# Altium footprint library AltiumLibrary.PcbLib: 85 footprints (part 2 of 6)
Each footprint in its own frame and in the unit in brackets; x right, y up, seen from the top. Pads: shape width x height; smd on the part's side, far side on the other; paste and mask are expansions set on the pad; w line width, h text height; cw(c..) or ccw(c..) is an arc to the next point about the centre after c.
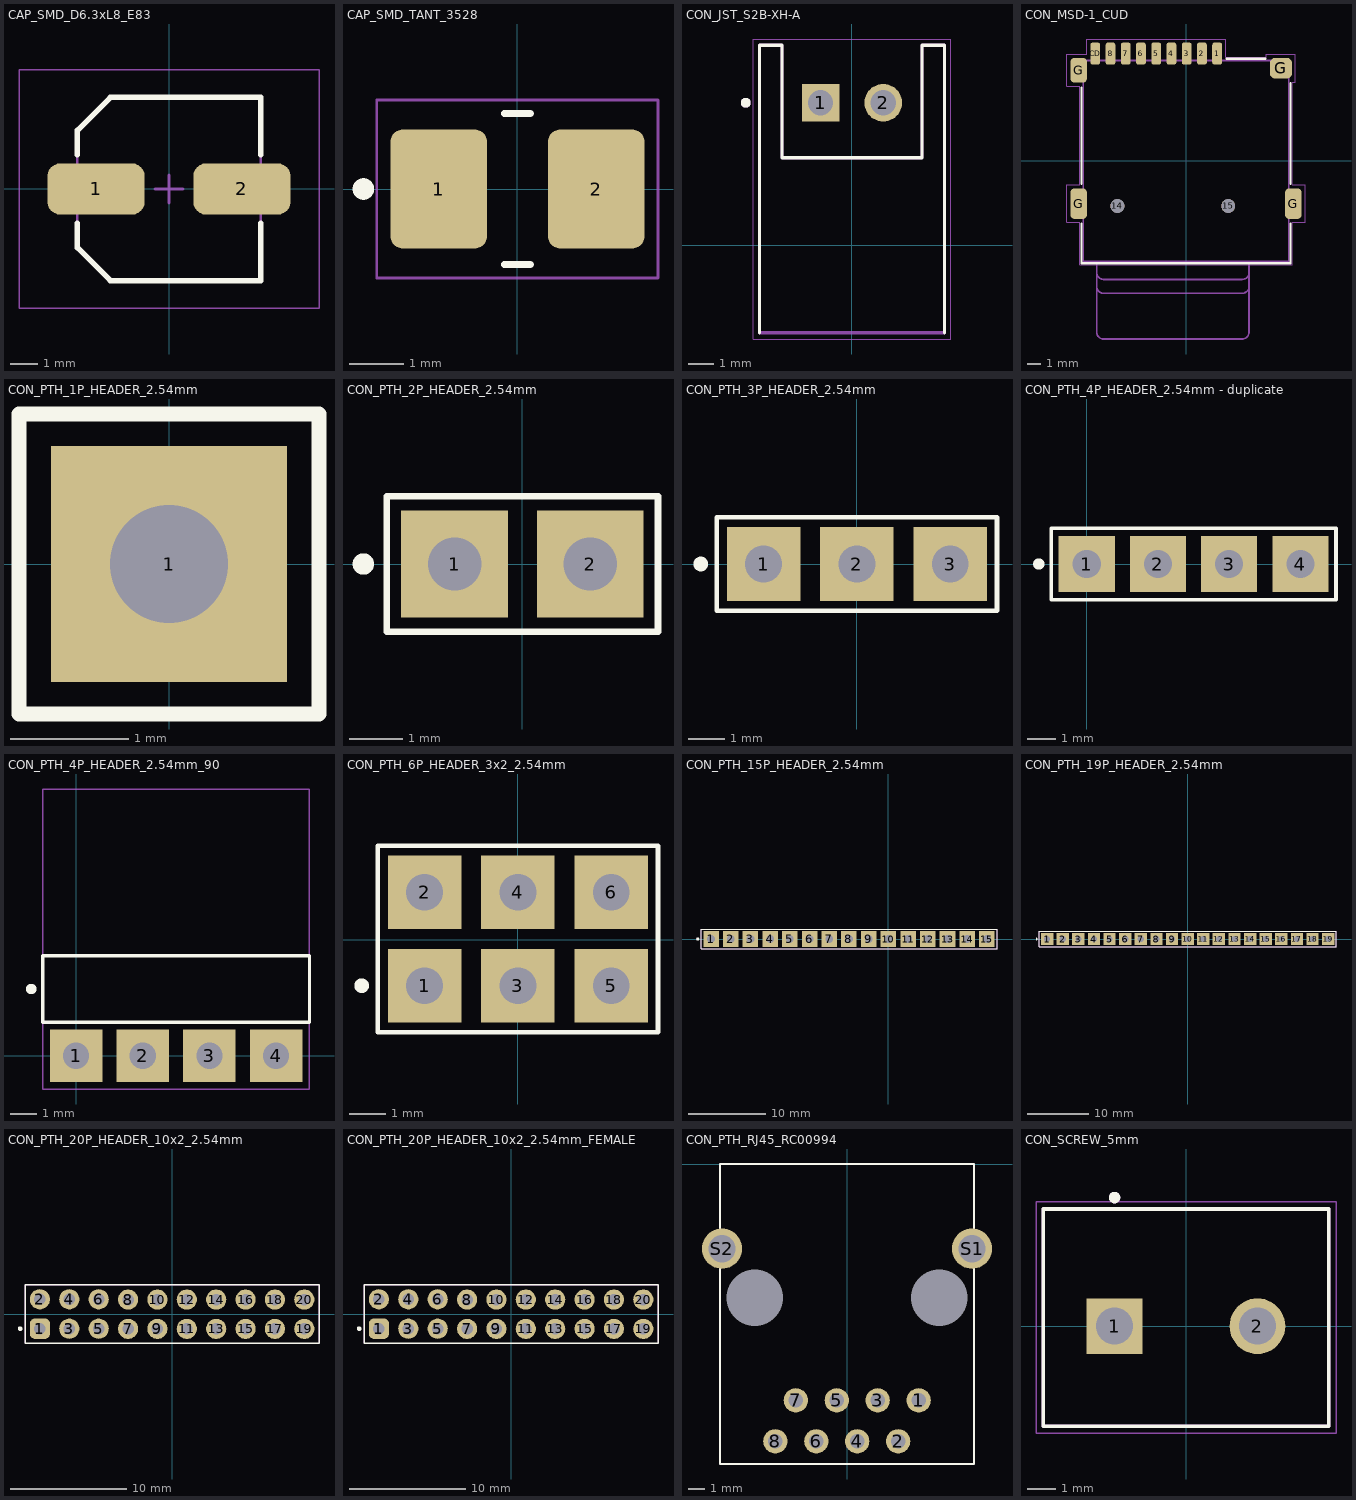
[diagram p1: the footprints below, top view; thin cyan lines are the x and y axes]

## CAP_SMD_D6.3xL8_E83 [mm] "Aluminum Electrolytic Capacitor, Body D6.3mm x L8.00mm, IPC Low Density"
height 8
pads (2):
  rrect50% 3.5x1.85 smd: 1(-2.625,0) 2(2.625,0)
Top Overlay:
  lines w0.2: -3.3,-1.225 -3.3,-2.113 -2.113,-3.3 3.3,-3.3 3.3,-1.225 ; -3.3,1.225 -3.3,2.113 -2.113,3.3 3.3,3.3 3.3,1.225
Top Assembly (Mech13):
  lines w0.1: -3.3,-2.113 -2.113,-3.3 3.3,-3.3 3.3,3.3 -2.113,3.3 -3.3,2.113 -3.3,-2.113
Top Courtyard:
  lines w0.05: -5.4,-4.3 -5.4,4.3 5.4,4.3 5.4,-4.3 -5.4,-4.3
  lines w0.1: -0.5,0 0.5,0 ; 0,-0.5 0,0.5
3D body "CAPAE7266X80M.step": height 8, standoff 0, extent -3.6,-3.3 3.6,3.3

## CAP_SMD_TANT_3528 [mm] "Tantalum Capacitor SMD 3528 Case"
height 2.1
pads (2):
  rrect25% 1.79x2.21 smd: 1(-1.46,0) 2(1.46,0)
Top Overlay:
  circle w0.2: c-2.855,0 r0.1
  lines w0.127: -0.245,-1.4 0.245,-1.4 ; -0.245,1.4 0.245,1.4
Top Courtyard:
  lines w0.05: -2.605,-1.65 -2.605,1.65 2.605,1.65 2.605,-1.65 -2.605,-1.65
3D body "step_temp.STEP": height 2.1, standoff 0, extent -1.75,-1.4 1.75,1.4

## CON_JST_S2B-XH-A [mm]
pads (2):
  rect 1.508x1.508 / inner round 1.508 / far side rect 1.508x1.508 hole 1: 1(-1.25,5.7)
  round 1.508 hole 1: 2(1.25,5.7)
Top Overlay:
  circle w0.2: c-4.25,5.7 r0.1
  lines w0.127: -3.7,-3.5 -3.7,8 -2.8,8 -2.8,3.5 2.8,3.5 2.8,8 3.7,8 3.7,-3.5
Top 3D Body:
  circle w0.2: c-4.25,5.7 r0.1
  lines w0.127: -3.7,-3.5 3.7,-3.5 3.7,8 2.8,8 2.8,3.5 -2.8,3.5 -2.8,8 -3.7,8 -3.7,-3.5
Top Courtyard:
  lines w0.05: -3.95,-3.75 3.95,-3.75 3.95,8.25 -3.95,8.25 -3.95,-3.75
3D body "step_temp.STEP": height 6.1, standoff -3.4, extent -3.7,-3.5 3.7,8

## CON_MSD-1_CUD [mil] "MicroSD card slot"
pads (15):
  rrect50% 28x63 smd paste-99999: 1(88.58,305.19) 2(45.28,305.19) 3(1.97,305.19) 4(-41.34,305.19) 5(-84.65,305.19) 6(-127.95,305.19) 7(-171.26,305.19) 8(-214.57,305.19) CD(-257.87,305.19)
  round 39.37 hole 39.37 unplated paste-99999 mask+0: 14(-194.88,-127.89) 15(120.08,-127.89)
  rrect50% 47x87 smd paste-99999: G(-305.12,-121.14) G(305.12,-121.14)
  rrect50% 47x70.87 smd paste-99999: G(-305,257.89)
  rrect50% 63x59 smd paste-99999: G(269.69,263.82)
Top Overlay:
  lines w6: -297.5,-177.74 -297.5,-290.5 297.5,-290.5 297.5,-177.74 ; -297.5,-64.54 -297.5,209.35 ; 115.68,290.5 225.09,290.5 ; 297.5,-64.54 297.5,221.22
Top Paste:
  drawing of 13 lines, arcs and shapes, not listed
Top Assembly (Mech13):
  lines w1: -292.5,-285.5 292.5,-285.5 292.5,285.5 -292.5,285.5 -292.5,-285.5
  lines w5: -253.94,-356.3 ccw(c-234.25,-356.3) -234.25,-375.98 159.45,-375.98 ccw(c159.45,-356.3) 179.13,-356.3 ; -253.94,-316.93 ccw(c-234.25,-316.93) -234.25,-336.61 159.45,-336.61 ccw(c159.45,-316.93) 179.13,-316.93 ; -253.94,-285.43 -253.94,-486.22 ccw(c-234.25,-486.22) -234.25,-505.91 159.45,-505.91 ccw(c159.45,-486.22) 179.13,-486.22 179.13,-285.43 ; -253.94,-285.43 179.13,-285.43 ; -253.94,-285.43 -292.32,-285.43 -292.32,285.43 292.32,285.43 292.32,-285.43 179.13,-285.43
Top Courtyard:
  lines w1.97: -338.62,-174.64 -338.62,-67.64 -302.5,-67.64 -302.5,212.45 -338.5,212.45 -338.5,303.32 -281.87,303.32 -281.87,346.69 112.58,346.69 112.58,295.5 228.19,295.5 228.19,303.32 311.19,303.32 311.19,224.32 302.5,224.32 302.5,-67.64 338.62,-67.64 338.62,-174.64 302.5,-174.64 302.5,-295.5 -302.5,-295.5 -302.5,-174.64 -338.62,-174.64
3D body "step_temp.STEP": height 74.1, standoff -20.39, extent -318.91,-286 316.92,306.52

## CON_PTH_1P_HEADER_2.54mm [mm] "1P PTH male pin header. 2.54mm pitch"
pads (1):
  rect 2x2 hole 1: 1(0,0)
Top Overlay:
  lines w0.127: -1.27,-1.27 -1.27,1.27 1.27,1.27 1.27,-1.27 -1.27,-1.27
Top Courtyard:
  lines w0.05: -1.27,-1.27 -1.27,1.27 1.27,1.27 1.27,-1.27 -1.27,-1.27
3D body "1p.step": height 8.75, standoff -2.99, extent -1.27,-1.27 1.27,1.27

## CON_PTH_2P_HEADER_2.54mm [mm] "2P PTH male pin header. 2.54mm pitch"
pads (2):
  rect 2x2 hole 1: 1(-1.27,0) 2(1.27,0)
Top Overlay:
  circle w0.2: c-2.98,0 r0.1
  lines w0.127: -2.54,-1.27 -2.54,1.27 -1.53,1.27 2.54,1.27 2.54,-1.27 -2.54,-1.27
Top Courtyard:
  lines w0.05: -2.54,-1.27 -2.54,1.27 2.54,1.27 2.54,-1.27 -2.54,-1.27
3D body "2p.step": height 8.75, standoff -2.99, extent -2.54,-1.27 2.54,1.27

## CON_PTH_3P_HEADER_2.54mm [mm] "3P PTH male pin header. 2.54mm pitch"
pads (3):
  rect 2x2 hole 1: 1(-2.54,0) 2(0,0) 3(2.54,0)
Top Overlay:
  circle w0.2: c-4.25,0 r0.1
  lines w0.127: -3.81,-1.27 3.81,-1.27 3.81,1.27 2.8,1.27 -2.8,1.27 -3.81,1.27 -3.81,-1.27
Top Courtyard:
  lines w0.05: -3.81,-1.27 3.81,-1.27 3.81,1.27 -3.81,1.27 -3.81,-1.27
3D body "M20-9990345--3DModel-STEP-56544.STEP": height 8.75, standoff -2.99, extent -3.81,-1.27 3.81,1.27

## CON_PTH_4P_HEADER_2.54mm - duplicate [mm] "4P PTH male pin header. 2.54mm pitch"
pads (4):
  rect 2x2 hole 1: 1(0,0) 2(2.54,0) 3(5.08,0) 4(7.62,0)
Top Overlay:
  circle w0.2: c-1.71,0 r0.1
  lines w0.127: -1.27,-1.27 -1.27,1.27 -0.26,1.27 8.89,1.27 8.89,-1.27 -1.27,-1.27
Top Courtyard:
  lines w0.05: -1.27,-1.27 -1.27,1.27 8.89,1.27 8.89,-1.27 -1.27,-1.27
3D body "2p.step": height 8.75, standoff -2.99, extent 3.81,-1.27 8.89,1.27
3D body "2p.step": height 8.75, standoff -2.99, extent -1.27,-1.27 3.81,1.27

## CON_PTH_4P_HEADER_2.54mm_90 [mm] "4P PTH male pin header. 2.54mm pitch 90 degrees"
pads (4):
  rect 2x2 hole 1: 1(0,0) 2(2.54,0) 3(5.08,0) 4(7.62,0)
Top Overlay:
  circle w0.2: c-1.71,2.54 r0.1
  lines w0.127: -1.27,1.27 8.89,1.27 8.89,3.81 -0.26,3.81 -1.27,3.81 -1.27,1.27
Top Courtyard:
  lines w0.05: -1.27,-1.27 8.89,-1.27 8.89,10.16 -1.27,10.16 -1.27,-1.27
3D body "PH1RB-04-UA.STEP": height 2.51, standoff -3.04, extent -1.28,-0.32 8.887,9.9

## CON_PTH_6P_HEADER_3x2_2.54mm [mm] "3x2 6P PTH male pin header. 2.54mm pitch"
pads (6):
  rect 2x2 hole 1: 1(-2.54,-1.25) 2(-2.54,1.29) 3(0,-1.25) 4(0,1.29) 5(2.54,-1.25) 6(2.54,1.29)
Top Overlay:
  circle w0.2: c-4.25,-1.25 r0.1
  lines w0.127: -3.81,-2.52 3.81,-2.52 3.81,2.56 -3.81,2.56 -3.81,-2.52
Top Courtyard:
  lines w0.05: -3.81,-2.52 3.81,-2.52 3.81,2.56 -3.81,2.56 -3.81,-2.52
3D body "M20-9990345--3DModel-STEP-56544.STEP": height 8.75, standoff -2.99, extent -3.81,0.02 3.81,2.56
3D body "M20-9990345--3DModel-STEP-56544.STEP": height 8.75, standoff -2.99, extent -3.81,-2.52 3.81,0.02

## CON_PTH_15P_HEADER_2.54mm [mm] "15P PTH male pin header. 2.54mm pitch"
pads (15):
  rect 2x2 hole 1: 1(-22.86,0) 2(-20.32,0) 3(-17.78,0) 4(-15.24,0) 5(-12.7,0) 6(-10.16,0) 7(-7.62,0) 8(-5.08,0) 9(-2.54,0) 10(0,0) 11(2.54,0) 12(5.08,0) 13(7.62,0) 14(10.16,0) 15(12.7,0)
Top Overlay:
  circle w0.2: c-24.57,0 r0.1
  lines w0.127: -24.13,-1.27 14,-1.27 14,1.27 -17.52,1.27 -23.12,1.27 -24.13,1.27 -24.13,-1.27
Top Courtyard:
  lines w0.05: -24.13,-1.27 14,-1.27 14,1.27 -24.13,1.27 -24.13,-1.27
3D body "TSW-115-14-L-S.stp": height 10.68, standoff -2.78, extent -24.13,-1.27 14.097,1.27

## CON_PTH_19P_HEADER_2.54mm [mm] "19P PTH male pin header. 2.54mm pitch"
pads (19):
  rect 2x2 hole 1: 1(-22.86,0) 2(-20.32,0) 3(-17.78,0)
  rect 2x2 hole 1 paste-2539.97 mask+0.102: 4(-15.24,0) 5(-12.7,0) 6(-10.16,0) 7(-7.62,0) 8(-5.08,0) 9(-2.54,0) 10(0,0) 11(2.54,0) 12(5.08,0) 13(7.62,0) 14(10.16,0) 15(12.7,0) 16(15.24,0) 17(17.78,0) 18(20.32,0) 19(22.86,0)
Top Overlay:
  circle w0.2: c-24.57,0 r0.1
  lines w0.127: -24.13,-1.27 24.13,-1.27 24.13,1.27 -17.52,1.27 -23.12,1.27 -24.13,1.27 -24.13,-1.27
Top Courtyard:
  lines w0.05: -24.13,-1.27 24.13,-1.27 24.13,1.27 -24.13,1.27 -24.13,-1.27
3D body "19p.step": height 8.75, standoff -2.99, extent -24.13,-1.27 24.13,1.27

## CON_PTH_20P_HEADER_10x2_2.54mm [mm] "10x2 20P PTH male pin header. 2.54mm pitch"
pads (20):
  rrect50% 1.75x1.75 hole 1: 1(-11.43,-1.25)
  round 1.75 hole 1: 2(-11.43,1.29) 3(-8.89,-1.25) 4(-8.89,1.29) 5(-6.35,-1.25) 6(-6.35,1.29) 7(-3.81,-1.27) 8(-3.81,1.27) 9(-1.27,-1.27) 10(-1.27,1.27) 11(1.27,-1.27) 12(1.27,1.27) 13(3.81,-1.27) 14(3.81,1.27) 15(6.35,-1.27) 16(6.35,1.27) 17(8.89,-1.27) 18(8.89,1.27) 19(11.43,-1.27) 20(11.43,1.27)
Top Overlay:
  circle w0.2: c-13.14,-1.25 r0.1
  lines w0.127: -12.7,-2.52 12.7,-2.52 12.7,2.56 -12.7,2.56 -12.7,-2.52
Top Courtyard:
  lines w0.05: -12.7,-2.52 12.7,-2.52 12.7,2.56 -12.7,2.56 -12.7,-2.52
3D body "2p.step": height 8.75, standoff -2.99, extent -12.7,0 -7.62,2.54
3D body "2p.step": height 8.75, standoff -2.99, extent -2.54,-2.54 2.54,0
3D body "2p.step": height 8.75, standoff -2.99, extent 2.54,-2.54 7.62,0
3D body "2p.step": height 8.75, standoff -2.99, extent 7.62,-2.54 12.7,0
3D body "2p.step": height 8.75, standoff -2.99, extent 7.62,0 12.7,2.54
3D body "2p.step": height 8.75, standoff -2.99, extent 2.54,0 7.62,2.54
3D body "2p.step": height 8.75, standoff -2.99, extent -2.54,0 2.54,2.54
3D body "2p.step": height 8.75, standoff -2.99, extent -7.62,-2.54 -2.54,0
3D body "2p.step": height 8.75, standoff -2.99, extent -7.62,0 -2.54,2.54
3D body "2p.step": height 8.75, standoff -2.99, extent -12.7,-2.54 -7.62,0

## CON_PTH_20P_HEADER_10x2_2.54mm_FEMALE [mm] "10x2 20P PTH female pin header. 2.54mm pitch"
pads (20):
  rrect50% 1.75x1.75 hole 1: 1(-11.43,-1.25)
  round 1.75 hole 1: 2(-11.43,1.29) 3(-8.89,-1.25) 4(-8.89,1.29) 5(-6.35,-1.25) 6(-6.35,1.29) 7(-3.81,-1.27) 8(-3.81,1.27) 9(-1.27,-1.27) 10(-1.27,1.27) 11(1.27,-1.27) 12(1.27,1.27) 13(3.81,-1.27) 14(3.81,1.27) 15(6.35,-1.27) 16(6.35,1.27) 17(8.89,-1.27) 18(8.89,1.27) 19(11.43,-1.27) 20(11.43,1.27)
Top Overlay:
  circle w0.2: c-13.14,-1.25 r0.1
  lines w0.127: -12.7,-2.52 12.7,-2.52 12.7,2.56 -12.7,2.56 -12.7,-2.52
Top Courtyard:
  lines w0.05: -12.7,-2.52 12.7,-2.52 12.7,2.56 -12.7,2.56 -12.7,-2.52
3D body "PPPC042LFBNRC--3DModel-STEP-269445.STEP": height 8.52, standoff -3.19, extent -12.7,0 -7.62,2.54
3D body "PPPC042LFBNRC--3DModel-STEP-269445.STEP": height 8.52, standoff -3.19, extent -7.62,0 -2.54,2.54
3D body "PPPC042LFBNRC--3DModel-STEP-269445.STEP": height 8.52, standoff -3.19, extent -2.54,0 2.54,2.54
3D body "PPPC042LFBNRC--3DModel-STEP-269445.STEP": height 8.52, standoff -3.19, extent 2.54,0 7.62,2.54
3D body "PPPC042LFBNRC--3DModel-STEP-269445.STEP": height 8.52, standoff -3.19, extent 7.62,0 12.7,2.54
3D body "PPPC042LFBNRC--3DModel-STEP-269445.STEP": height 8.52, standoff -3.19, extent 7.62,-2.54 12.7,0
3D body "PPPC042LFBNRC--3DModel-STEP-269445.STEP": height 8.52, standoff -3.19, extent 2.54,-2.54 7.62,0
3D body "PPPC042LFBNRC--3DModel-STEP-269445.STEP": height 8.52, standoff -3.19, extent -2.54,-2.54 2.54,0
3D body "PPPC042LFBNRC--3DModel-STEP-269445.STEP": height 8.52, standoff -3.19, extent -7.62,-2.54 -2.54,0
3D body "PPPC042LFBNRC--3DModel-STEP-269445.STEP": height 8.52, standoff -3.19, extent -12.7,-2.54 -7.62,0

## CON_PTH_RJ45_RC00994 [mm] "RC00994 RJ45 Connector"
height 13
pads (12):
  round 1.5 hole 0.9: 1(4.445,-14.65) 2(3.175,-17.19) 3(1.905,-14.65) 4(0.635,-17.19) 5(-0.635,-14.65) 6(-1.905,-17.19) 7(-3.175,-14.65) 8(-4.445,-17.19)
  rrect50% 0x0 hole 3.5 unplated paste-2539.97 mask+0.102: NC5(-5.715,-8.3) NC5(5.715,-8.3)
  round 2.5 hole 1.7: S1(7.75,-5.25) S2(-7.75,-5.25)
Top Overlay:
  lines w0.152: -7.875,-18.6 7.875,-18.6 7.875,0 -7.875,0 -7.875,-18.6
3D body "A-2004-2-4-LPS-N-R--3DModel-STEP-56544.STEP": height 13.21, standoff -3.59, extent -7.9,-18.6 7.9,0

## CON_SCREW_5mm [mm]
height 10
pads (2):
  rect 1.95x1.95 / inner round 1.95 / far side rect 1.95x1.95 hole 1.3: 1(-2.5,0)
  round 1.95 hole 1.3: 2(2.5,0)
Top Overlay:
  circle w0.2: c-2.5,4.5 r0.1
  lines w0.127: -5,-3.5 5,-3.5 5,4.1 -5,4.1 -5,-3.5
Top 3D Body:
  circle w0.2: c-2.5,4.5 r0.1
  lines w0.127: -5,-3.5 5,-3.5 5,4.1 -5,4.1 -5,-3.5
Top Courtyard:
  lines w0.05: -5.25,-3.75 -5.25,4.35 5.25,4.35 5.25,-3.75 -5.25,-3.75
3D body "step_temp.STEP": height 10.01, standoff -4.34, extent -5.5,-3.5 5,4.1